# EAGLE library part GPS501 (library _GpsAttitude)
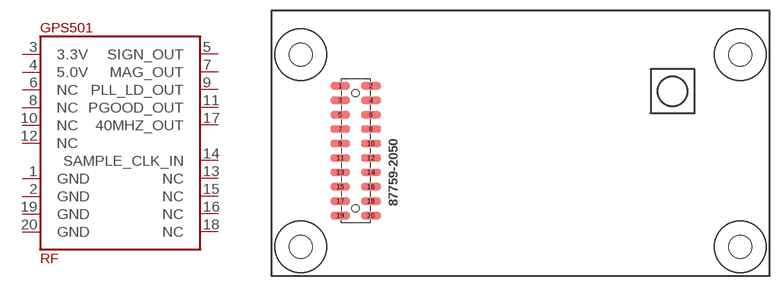
[diagram p2: symbol with the pads of GPS501; footprint GPS501]

Designator prefix RF

## GPS501  [GPS501]
1  GND  pwr
2  GND  pwr
3  3.3V  pwr
4  5.0V  pwr
5  SIGN_OUT  out
6  NC  nc
7  MAG_OUT  out
8  NC  nc
9  PLL_LD_OUT  out
10  NC  nc
11  PGOOD_OUT  out
12  NC  nc
13  NC  nc
14  SAMPLE_CLK_IN  in
15  NC  nc
16  NC  nc
17  40MHZ_OUT  out
18  NC  nc
19  GND  pwr
20  GND  pwr

## Footprint GPS501 (pad centres in mm)
smd 2.743 x 1.016: 1 9.558,26.399; 2 13.808,26.399; 3 9.558,24.399; 4 13.808,24.399; 5 9.558,22.399; 6 13.808,22.399; 7 9.558,20.399; 8 13.808,20.399; 9 9.558,18.399; 10 13.808,18.399; 11 9.558,16.399; 12 13.808,16.399; 13 9.558,14.399; 14 13.808,14.399; 15 9.558,12.399; 16 13.808,12.399; 17 9.558,10.399; 18 13.808,10.399; 19 9.558,8.399; 20 13.808,8.399
hole 3.175 at 4.064,30.734
hole 3.175 at 4.064,4.064
hole 3.175 at 65.024,30.734
hole 3.175 at 65.024,4.064
hole 1 at 11.683,25.399
hole 1 at 11.683,9.399